# Altium footprint library Diodes_TH.PcbLib: 23 footprints (part 1 of 2)
Each footprint in its own frame and in the unit in brackets; x right, y up, seen from the top. Pads: shape width x height; smd on the part's side, far side on the other; paste and mask are expansions set on the pad; w line width, h text height; cw(c..) or ccw(c..) is an arc to the next point about the centre after c.
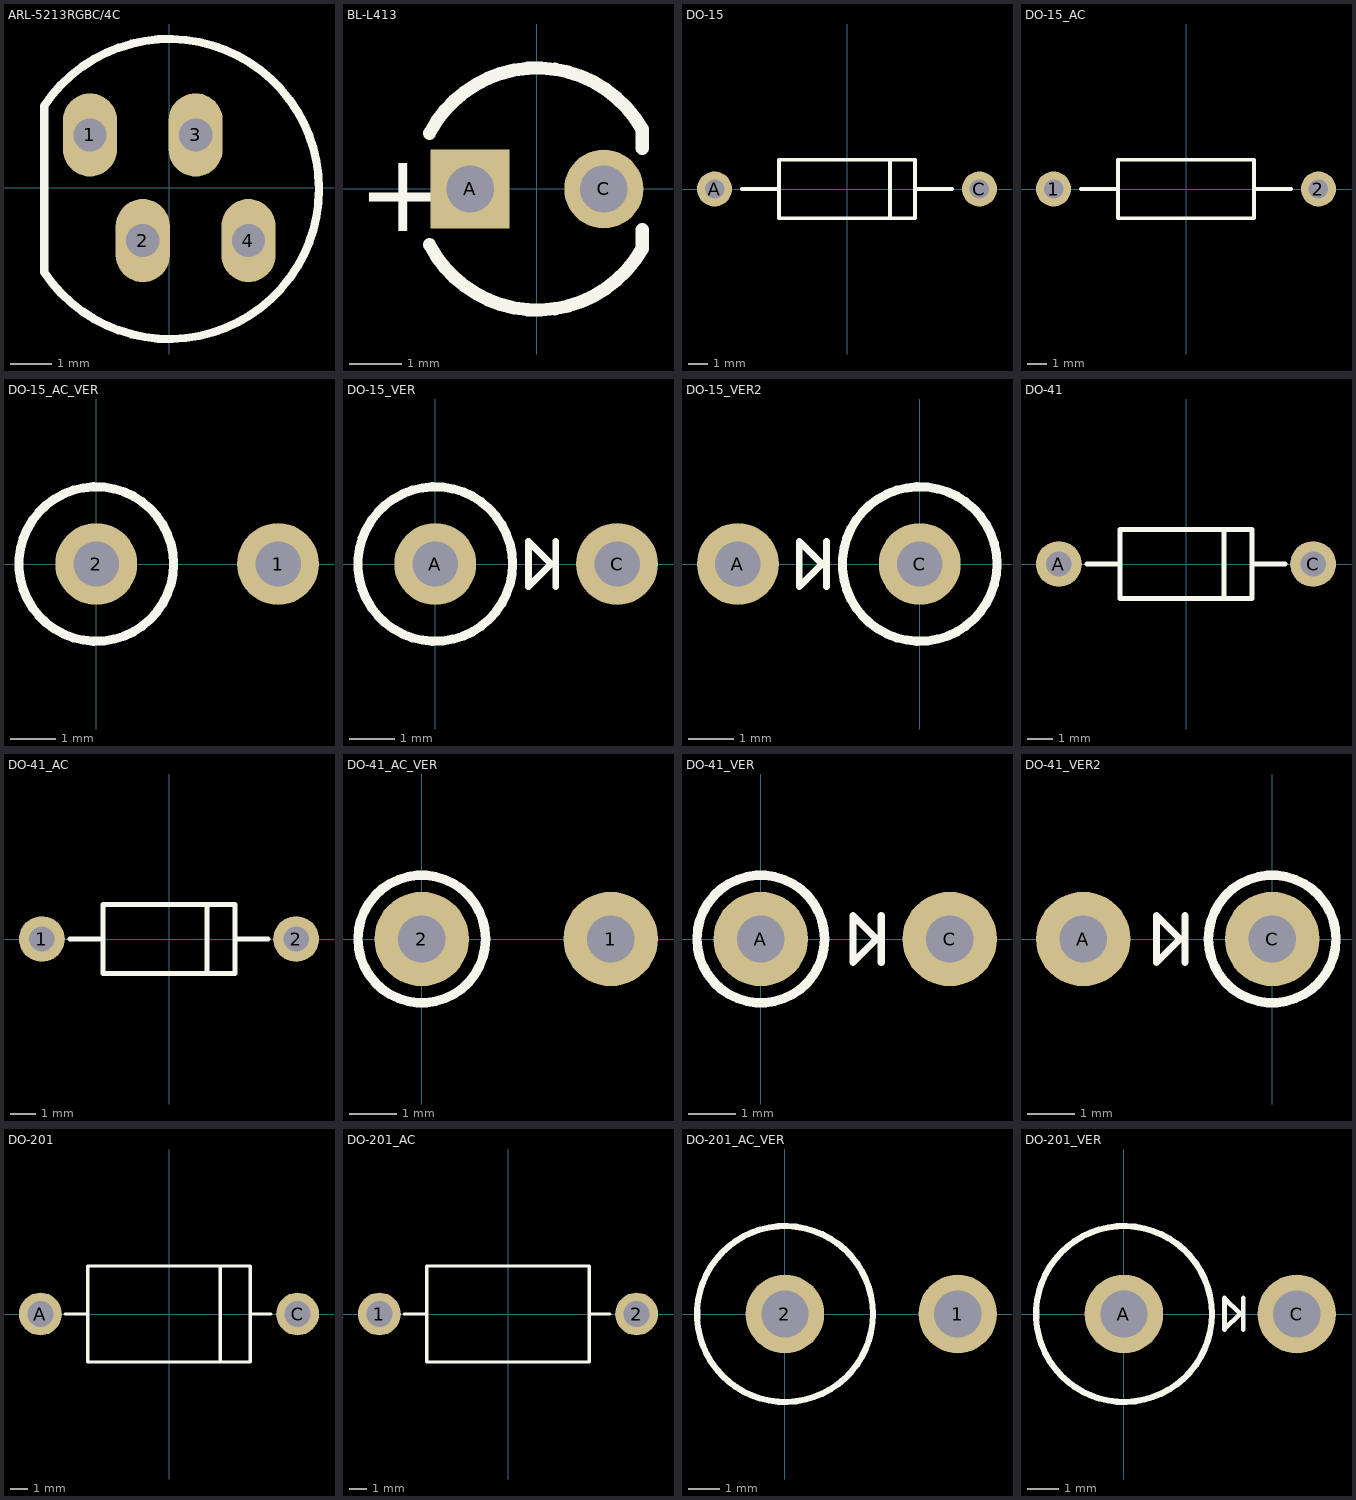
[diagram p0: the footprints below, top view; thin cyan lines are the x and y axes]

## ARL-5213RGBC/4C [mm] "RGB светодиод c общим катодом (ф.Arlight)"
height 10
pads (4):
  oval 1.3x2 hole 0.8: 1(-1.905,1.27) 2(-0.635,-1.27) 3(0.635,1.27) 4(1.905,-1.27)
Top Overlay:
  lines w0.2: -3.005,-2.03 ccw(c-0.005,-0.03) -3.005,1.97 -3.005,-2.03

## BL-L413 [mm] "LED, d=4mm"
height 6
pads (2):
  rect 1.5x1.5 hole 0.9: A(-1.27,0)
  round 1.5 hole 0.9: C(1.27,0)
Top Overlay:
  lines w0.25: -2.042,-1.059 ccw(c0,0) 2,-1.136 ; -2.042,1.059 cw(c0,0) 2,1.136
  lines w0.254: 2,-1.136 2,-0.775 ; 2,0.775 2,1.136
  text "+" at -3.4,-0.8 h1.5
3D body "BL-L413.STEP": height 6, standoff -3, extent -2.3,-2.298 2,2.298
3D body: height 0, standoff -2.5, extent 1.02,-0.25 1.52,0.25
3D body: height 0, standoff -2.5, extent -1.52,-0.25 -1.02,0.25

## DO-15 [mm]
pads (2):
  round 1.8 hole 1: A(-6.8,0) C(6.8,0)
Top Overlay:
  lines w0.2: -5.4,0 -3.5,0 ; 2.2,-1.5 2.2,1.5 ; 3.5,0 5.4,0 ; -3.5,-1.5 -3.5,1.5 3.5,1.5 3.5,-1.5 -3.5,-1.5
3D body "Pin_0.8_6x6.STEP": height 2.4, standoff -4, extent -7.2,-0.4 -0.8,0.4
3D body "Pin_0.8_6x6.STEP": height 2.4, standoff -4, extent 0.8,-0.4 7.2,0.4
3D body "DO-15_without_pins.STEP": height 3.5, standoff 0.5, extent -3.5,-1.5 3.5,1.5

## DO-15_AC [mm]
pads (2):
  round 1.8 hole 1: 1(-6.8,0) 2(6.8,0)
Top Overlay:
  lines w0.2: -5.4,0 -3.5,0 ; 3.5,0 5.4,0 ; -3.5,-1.5 3.5,-1.5 3.5,1.5 -3.5,1.5 -3.5,-1.5
3D body "DO-15_without_pins.STEP": height 3.5, standoff 0.5, extent -3.5,-1.5 3.5,1.5
3D body "Pin_0.8_6x6.STEP": height 2.4, standoff -4, extent 0.8,-0.4 7.2,0.4
3D body "Pin_0.8_6x6.STEP": height 2.4, standoff -4, extent -7.2,-0.4 -0.8,0.4

## DO-15_AC_VER [mm]
pads (2):
  round 1.8 hole 1: 1(4,0) 2(0,0)
Top Overlay:
  circle w0.2: c0,0 r1.7
3D body: height 4.5, standoff -3, extent 3.601,-0.4 4.399,0.397
3D body "Pin_0.8_arc_2mm_2.STEP": height 10.73, standoff 4.08, extent 1.308,-0.4 4.389,0.4
3D body: height 2, standoff -3, extent -0.399,-0.397 0.399,0.4
3D body "DO-15_without_pins.STEP": height 8, standoff 1, extent -1.5,-1.5 1.5,1.5
3D body "Pin_0.8_arc_2mm_2.STEP": height 10.4, standoff 4, extent -0.4,-0.4 1.6,0.4

## DO-15_VER [mm]
pads (2):
  round 1.8 hole 1: A(0,0) C(4,0)
Top Overlay:
  circle w0.2: c0,0 r1.7
  lines w0.15: 2.65,-0.5 2.65,0.5 ; 2.65,0 2.55,0 ; 2.55,0 2.05,0.5 2.05,-0.5 2.55,0
3D body: height 4.5, standoff -3, extent 3.601,-0.4 4.399,0.397
3D body "Pin_0.8_arc_2mm_2.STEP": height 10.73, standoff 4.08, extent 1.308,-0.4 4.389,0.4
3D body: height 2, standoff -3, extent -0.399,-0.397 0.399,0.4
3D body "DO-15_without_pins.STEP": height 8, standoff 1, extent -1.5,-1.5 1.5,1.5
3D body "Pin_0.8_arc_2mm_2.STEP": height 10.4, standoff 4, extent -0.4,-0.4 1.6,0.4

## DO-15_VER2 [mm]
pads (2):
  round 1.8 hole 1: A(-4,0) C(0,0)
Top Overlay:
  circle w0.2: c0,0 r1.7
  lines w0.15: -2.05,-0.5 -2.05,0.5 ; -2.05,0 -2.15,0 ; -2.15,0 -2.65,0.5 -2.65,-0.5 -2.15,0
3D body "DO-15_without_pins.STEP": height 8, standoff 1, extent -1.5,-1.5 1.5,1.5
3D body: height 2, standoff -3, extent -0.399,-0.4 0.399,0.397
3D body "Pin_0.8_arc_2mm_2.STEP": height 10.73, standoff 4.08, extent -4.389,-0.4 -1.308,0.4
3D body "Pin_0.8_arc_2mm_2.STEP": height 10.4, standoff 4, extent -1.6,-0.4 0.4,0.4
3D body: height 4.5, standoff -3, extent -4.399,-0.4 -3.601,0.397

## DO-41 [mm]
pads (2):
  round 1.8 hole 1: A(-5,0) C(5,0)
Top Overlay:
  lines w0.2: -3.9,0 -2.6,0 ; 1.5,-1.35 1.5,1.35 ; 2.7,0 3.9,0 ; -2.6,-1.35 -2.6,1.35 2.6,1.35 2.6,-1.35 -2.6,-1.35
3D body "DO-41.STEP": height 2.7, standoff 0.3, extent -2.25,-1.2 2.25,1.2
3D body "Pin_0.8_5x5.STEP": height 1.9, standoff -3.5, extent 0,-0.4 5.4,0.4
3D body "Pin_0.8_5x5.STEP": height 1.9, standoff -3.5, extent -5.4,-0.4 0,0.4

## DO-41_AC [mm]
pads (2):
  round 1.8 hole 1: 1(-5,0) 2(5,0)
Top Overlay:
  lines w0.2: -3.9,0 -2.6,0 ; 1.5,-1.35 1.5,1.35 ; 2.7,0 3.9,0 ; -2.6,-1.35 2.6,-1.35 2.6,1.35 -2.6,1.35 -2.6,-1.35
3D body "Pin_0.8_5x5.STEP": height 1.9, standoff -3.5, extent -5.4,-0.4 0,0.4
3D body "Pin_0.8_5x5.STEP": height 1.9, standoff -3.5, extent 0,-0.4 5.4,0.4
3D body "DO-41.STEP": height 2.7, standoff 0.3, extent -2.25,-1.2 2.25,1.2

## DO-41_AC_VER [mm]
pads (2):
  round 2 hole 1: 1(4,0) 2(0,0)
Top Overlay:
  circle w0.2: c0,0 r1.35
3D body: height 2, standoff -3, extent 3.601,-0.4 4.399,0.397
3D body "Pin_0.8_arc_2mm_2.STEP": height 8.23, standoff 1.58, extent 1.308,-0.4 4.389,0.4
3D body: height 2, standoff -3, extent -0.399,-0.397 0.399,0.4
3D body "DO-41.STEP": height 5.5, standoff 1, extent -1.2,-1.2 1.2,1.2
3D body "Pin_0.8_arc_2mm_2.STEP": height 7.9, standoff 1.5, extent -0.4,-0.4 1.6,0.4

## DO-41_VER [mm]
pads (2):
  round 2 hole 1: A(0,0) C(4,0)
Top Overlay:
  circle w0.2: c0,0 r1.35
  lines w0.15: 2.55,-0.5 2.55,0.5 ; 2.55,0 2.45,0 ; 2.45,0 1.95,0.5 1.95,-0.5 2.45,0
3D body: height 2, standoff -3, extent 3.601,-0.4 4.399,0.397
3D body "Pin_0.8_arc_2mm_2.STEP": height 8.23, standoff 1.58, extent 1.308,-0.4 4.389,0.4
3D body: height 2, standoff -3, extent -0.399,-0.397 0.399,0.4
3D body "DO-41.STEP": height 5.5, standoff 1, extent -1.2,-1.2 1.2,1.2
3D body "Pin_0.8_arc_2mm_2.STEP": height 7.9, standoff 1.5, extent -0.4,-0.4 1.6,0.4

## DO-41_VER2 [mm]
pads (2):
  round 2 hole 1: A(-4,0) C(0,0)
Top Overlay:
  circle w0.2: c0,0 r1.35
  lines w0.15: -1.85,-0.5 -1.85,0.5 ; -1.85,0 -1.95,0 ; -1.95,0 -2.45,-0.5 -2.45,0.5 -1.95,0
3D body: height 2, standoff -3, extent -4.399,-0.397 -3.601,0.4
3D body "Pin_0.8_arc_2mm_2.STEP": height 8.23, standoff 1.58, extent -4.389,-0.4 -1.308,0.4
3D body: height 2, standoff -3, extent -0.399,-0.4 0.399,0.397
3D body "DO-41.STEP": height 5.5, standoff 1, extent -1.2,-1.2 1.2,1.2
3D body "Pin_0.8_arc_2mm_2.STEP": height 7.9, standoff 1.5, extent -1.6,-0.4 0.4,0.4

## DO-201 [mm]
pads (2):
  round 2.5 hole 1.5: A(-7.5,0) C(7.5,0)
Top Overlay:
  lines w0.2: -6.05,0 -4.75,0 ; 3,-2.8 3,2.8 ; 4.75,0 5.95,0 ; -4.75,-2.8 4.75,-2.8 4.75,2.8 -4.75,2.8 -4.75,-2.8
3D body: height 5.6, standoff 0, extent -4.75,-2.8 1.75,2.8
3D body "Pin_0.8_5x5.STEP": height 3.2, standoff -2.2, extent -7.9,-0.4 -2.5,0.4
3D body "Pin_0.8_5x5.STEP": height 3.2, standoff -2.2, extent 2.5,-0.4 7.9,0.4
3D body: height 5.6, standoff 0, extent 1.75,-2.8 3.25,2.8
3D body: height 5.6, standoff 0, extent 3.25,-2.8 4.75,2.8

## DO-201_AC [mm]
pads (2):
  round 2.5 hole 1.5: 1(-7.5,0) 2(7.5,0)
Top Overlay:
  lines w0.2: -6.05,0 -4.75,0 ; 4.75,0 5.95,0 ; -4.75,-2.8 -4.75,2.8 4.75,2.8 4.75,-2.8 -4.75,-2.8
3D body "Pin_0.8_5x5.STEP": height 3.2, standoff -2.2, extent 2.5,-0.4 7.9,0.4
3D body "Pin_0.8_5x5.STEP": height 3.2, standoff -2.2, extent -7.9,-0.4 -2.5,0.4
3D body: height 5.6, standoff 0, extent -4.75,-2.8 4.75,2.8

## DO-201_AC_VER [mm]
pads (2):
  round 2.5 hole 1.5: 1(5.5,0) 2(0,0)
Top Overlay:
  circle w0.2: c0,0 r2.8
3D body "Pin_0.8_arc_2mm_2.STEP": height 14.4, standoff 8, extent -0.4,-0.4 1.6,0.4
3D body: height 11.5, standoff 2, extent -2.8,-2.8 2.8,2.8
3D body: height 2, standoff -3, extent -0.399,-0.397 0.399,0.4
3D body: height 9, standoff -3, extent 5.1,-0.4 5.9,0.4
3D body "Pin_0.8_arc_2mm_2.STEP": height 14.4, standoff 8, extent 3.9,-0.4 5.9,0.4
3D body: height 14.4, standoff 13.6, extent 1.6,-0.4 4.1,0.4

## DO-201_VER [mm]
pads (2):
  round 2.5 hole 1.5: A(0,0) C(5.5,0)
Top Overlay:
  circle w0.2: c0,0 r2.8
  lines w0.15: 3.8,-0.492 3.8,0.507 ; 3.8,0.007 3.7,0.008 ; 3.7,0.008 3.2,0.508 3.2,-0.492 3.7,0.008
3D body: height 11.5, standoff 10, extent -2.8,-2.8 2.8,2.8
3D body: height 10, standoff 8.5, extent -2.8,-2.8 2.8,2.8
3D body: height 8.5, standoff 2, extent -2.8,-2.8 2.8,2.8
3D body: height 14.4, standoff 13.6, extent 1.6,-0.4 4.1,0.4
3D body "Pin_0.8_arc_2mm_2.STEP": height 14.4, standoff 8, extent 3.9,-0.4 5.9,0.4
3D body: height 9, standoff -3, extent 5.1,-0.4 5.9,0.4
3D body: height 2, standoff -3, extent -0.399,-0.397 0.399,0.4
3D body "Pin_0.8_arc_2mm_2.STEP": height 14.4, standoff 8, extent -0.4,-0.4 1.6,0.4